# EAGLE library part S22P025S05 (library E-P-004-R1.1)
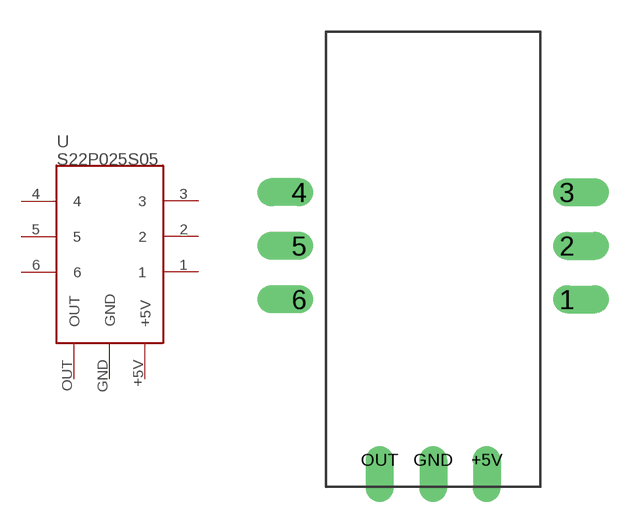
[diagram p0: symbol with the pads of S22P025S05-FOOT; footprint S22P025S05-FOOT]

Designator prefix -

## S22P025S05  [S22P025S05-FOOT]
1  1
2  2
3  3
4  4
5  5
6  6
+5V  +5V
GND  GND
OUT  OUT

## Footprint S22P025S05-FOOT (pad centres in mm)
drill 0.813 offset: 1 6.35,-2.54; 2 6.35,0; 3 6.35,2.54; 4 -6.35,2.54; 5 -6.35,0; 6 -6.35,-2.54; +5V 2.54,-10.16; GND 0,-10.16; OUT -2.54,-10.16